# Altium footprint library RayPCB20210502.PcbLib: 222 footprints (part 8 of 14)
Each footprint in its own frame and in the unit in brackets; x right, y up, seen from the top. Pads: shape width x height; smd on the part's side, far side on the other; paste and mask are expansions set on the pad; w line width, h text height; cw(c..) or ccw(c..) is an arc to the next point about the centre after c.
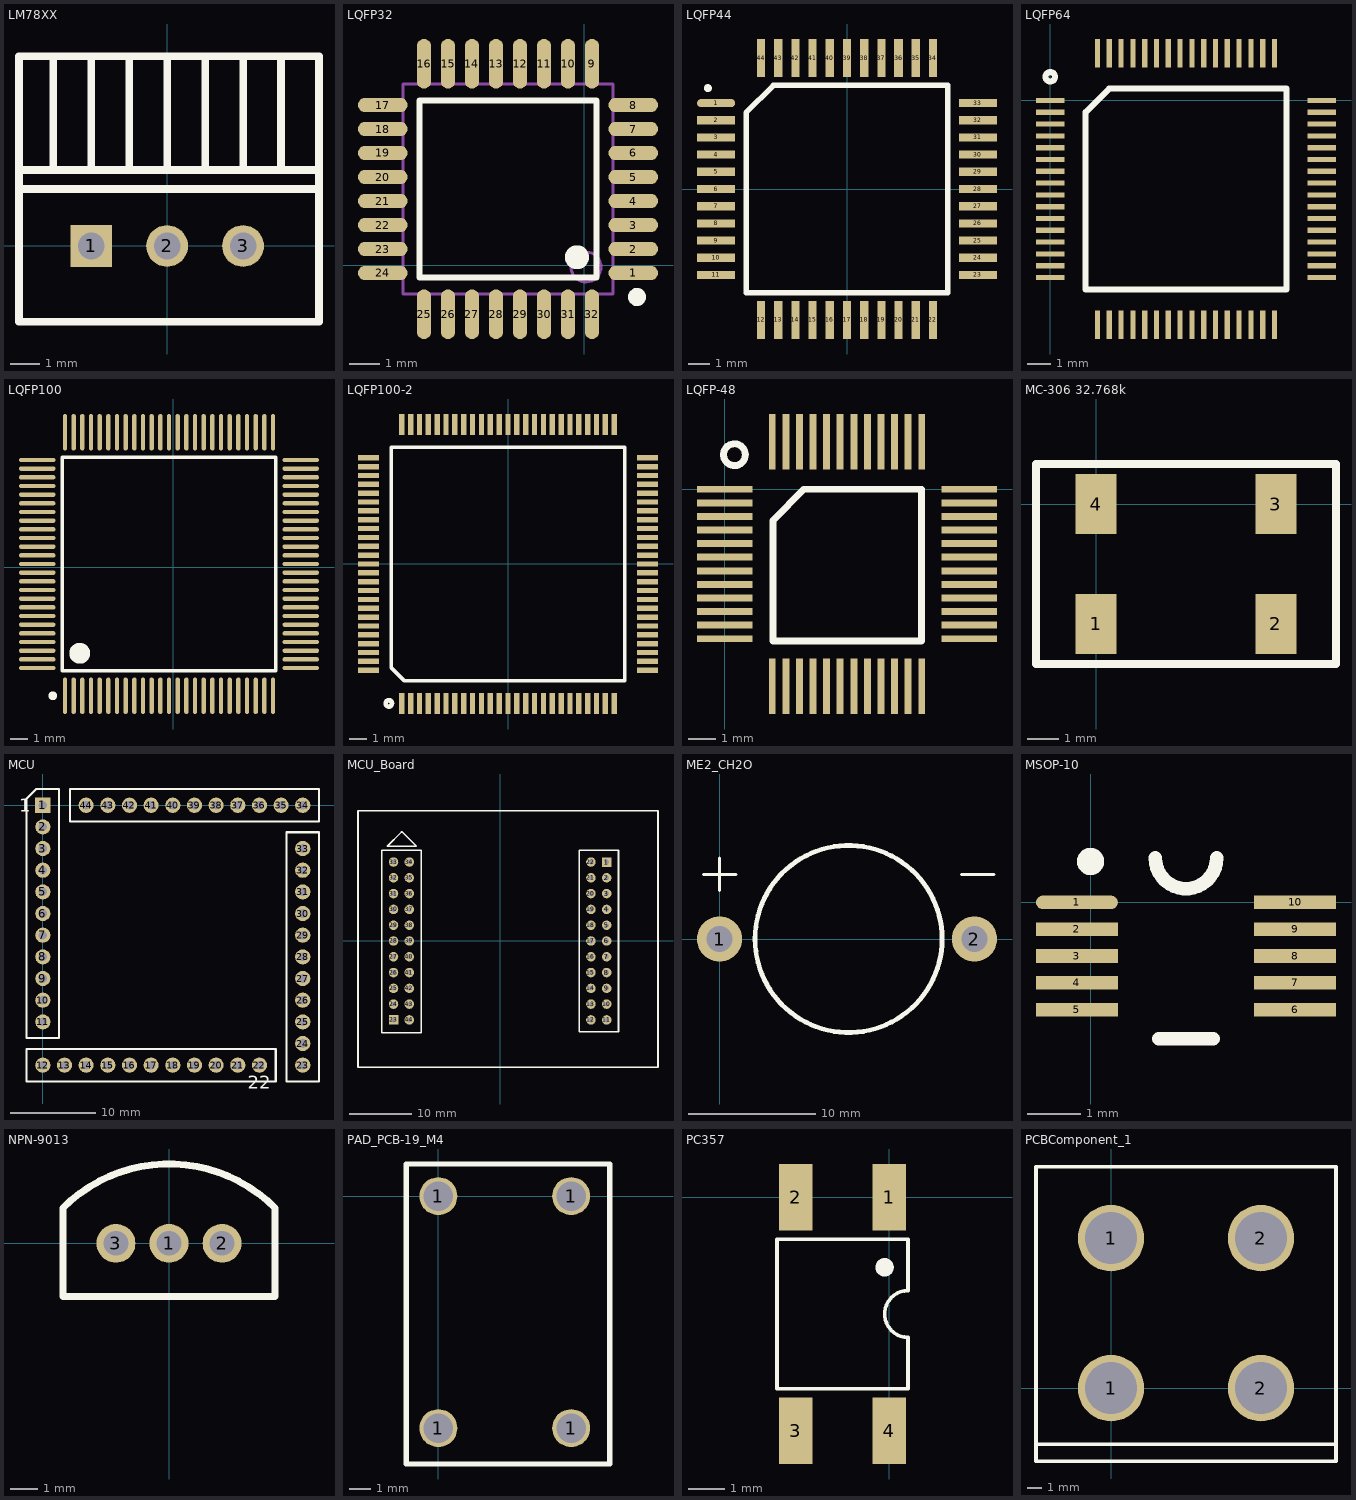
[diagram p7: the footprints below, top view; thin cyan lines are the x and y axes]

## LM78XX [mil]
pads (3):
  rect 55x55 hole 35: 1(-100,0)
  round 55 hole 35: 2(0,0) 3(100,0)
Top Overlay:
  lines w10: -195,75 200,75 ; -150,100 -150,250 ; -100,100 -100,250 ; -50,100 -50,250 ; 0,100 0,250 ; 50,100 50,250 ; 100,100 100,250 ; 150,100 150,250 ; -195,100 -195,-100 200,-100 200,100 ; -195,100 200,100 ; -195,100 -195,250 200,250 200,100

## LQFP32 [mm]
pads (32):
  oval 1.65x0.48 smd: 1(1.635,-0.26) 2(1.635,0.54) 3(1.635,1.34) 4(1.635,2.14) 5(1.635,2.94) 6(1.635,3.74) 7(1.635,4.54) 8(1.635,5.34) 17(-6.715,5.34) 18(-6.715,4.54) 19(-6.715,3.74) 20(-6.715,2.94) 21(-6.715,2.14) 22(-6.715,1.34) 23(-6.715,0.54) 24(-6.715,-0.26)
  oval 0.48x1.65 smd: 9(0.26,6.715) 10(-0.54,6.715) 11(-1.34,6.715) 12(-2.14,6.715) 13(-2.94,6.715) 14(-3.74,6.715) 15(-4.54,6.715) 16(-5.34,6.715) 25(-5.34,-1.635) 26(-4.54,-1.635) 27(-3.74,-1.635) 28(-2.94,-1.635) 29(-2.14,-1.635) 30(-1.34,-1.635) 31(-0.54,-1.635) 32(0.26,-1.635)
Top Overlay:
  circle w0.3: c1.76,-1.06 r0.15
  circle w0.4: c-0.24,0.265 r0.2
  lines w0.2: -5.49,-0.41 -5.49,5.49 0.41,5.49 0.41,-0.41 -5.49,-0.41
Mechanical 13:
  circle w0.1: c0.06,-0.06 r0.5
  lines w0.1: -6.04,-0.96 -6.04,6.04 0.96,6.04 0.96,-0.96 -6.04,-0.96

## LQFP44 [mil] "STM32S105S4"
pads (45):
  oval 70x15 smd: 1(-240,157.48)
  rect 70x15 smd: 2(-240,125.98) 3(-240,94.49) 4(-240,62.99) 5(-240,31.5) 6(-240,0) 7(-240,-31.5) 8(-240,-62.99) 9(-240,-94.49) 10(-240,-125.98) 11(-240,-157.48) 23(240,-157.48) 24(240,-125.98) 25(240,-94.49) 26(240,-62.99) 27(240,-31.5) 28(240,0) 29(240,31.5) 30(240,62.99) 31(240,94.49) 32(240,125.98) 33(240,157.48)
  rect 15x70 smd: 12(-157.48,-240) 13(-125.98,-240) 14(-94.49,-240) 15(-62.99,-240) 16(-31.5,-240) 17(0,-240) 18(31.5,-240) 19(62.99,-240) 20(94.49,-240) 21(125.98,-240) 22(157.48,-240) 34(157.48,240) 37(62.99,240) 38(31.5,240) 39(0,240) 40(-31.5,240) 41(-62.99,240) 42(-94.49,240) 43(-125.98,240) 44(-157.48,240)
  rect 15.75x70 smd: 35(125.98,240) 36(94.49,240)
  round 15 on Top Overlay: 45(-255,185)
Top Overlay:
  lines w10: -185,-190 185,-190 185,190 -135,190 -185,140 -185,-190

## LQFP64 [mm]
pads (64):
  rect 1.2x0.22 smd: 1(0,0) 2(0,-0.5) 3(0,-1) 4(0,-1.5) 5(0,-2) 6(0,-2.5) 7(0,-3) 8(0,-3.5) 9(0,-4) 10(0,-4.5) 11(0,-5) 12(0,-5.5) 13(0,-6) 14(0,-6.5) 15(0,-7) 16(0,-7.5) 33(11.5,-7.5) 34(11.5,-7) 35(11.5,-6.5) 36(11.5,-6) 37(11.5,-5.5) 38(11.5,-5) 39(11.5,-4.5) 40(11.5,-4) 41(11.5,-3.5) 42(11.5,-3) 43(11.5,-2.5) 44(11.5,-2) 45(11.5,-1.5) 46(11.5,-1) 47(11.5,-0.5) 48(11.5,0)
  rect 0.22x1.2 smd: 17(2,-9.5) 18(2.5,-9.5) 19(3,-9.5) 20(3.5,-9.5) 21(4,-9.5) 22(4.5,-9.5) 23(5,-9.5) 24(5.5,-9.5) 25(6,-9.5) 26(6.5,-9.5) 27(7,-9.5) 28(7.5,-9.5) 29(8,-9.5) 30(8.5,-9.5) 31(9,-9.5) 32(9.5,-9.5) 49(9.5,2) 50(9,2) 51(8.5,2) 52(8,2) 53(7.5,2) 54(7,2) 55(6.5,2) 56(6,2) 57(5.5,2) 58(5,2) 59(4.5,2) 60(4,2) 61(3.5,2) 62(3,2) 63(2.5,2) 64(2,2)
Top Overlay:
  circle w0.254: c0,1 r0.2
  lines w0.254: 2.5,0.5 1.5,-0.5 1.5,-8 10,-8 10,0.5 2.5,0.5 ; 2.5,0.5 2.5,0.5

## LQFP100 [mm] "STM32F013VBT6"
pads (100):
  oval 0.254x2.1 smd: 1(-6.25,-7.42) 2(-5.75,-7.42) 3(-5.25,-7.42) 4(-4.75,-7.42) 5(-4.25,-7.42) 6(-3.75,-7.42) 7(-3.25,-7.42) 8(-2.75,-7.42) 9(-2.25,-7.42) 10(-1.75,-7.42) 11(-1.25,-7.42) 12(-0.75,-7.42) 13(-0.25,-7.42) 14(0.25,-7.42) 15(0.75,-7.42) 16(1.25,-7.42) 17(1.75,-7.42) 18(2.25,-7.42) 19(2.75,-7.42) 20(3.25,-7.42) 21(3.75,-7.42) 22(4.25,-7.42) 23(4.75,-7.42) 24(5.25,-7.42) 25(5.75,-7.42) 51(5.75,7.78) 52(5.25,7.78) 53(4.75,7.78) 54(4.25,7.78) 55(3.75,7.78) 56(3.25,7.78) 57(2.75,7.78) 58(2.25,7.78) 59(1.75,7.78) 60(1.25,7.78) 61(0.75,7.78) 62(0.25,7.78) 63(-0.25,7.78) 64(-0.75,7.78) 65(-1.25,7.78) 66(-1.75,7.78) 67(-2.25,7.78) 68(-2.75,7.78) 69(-3.25,7.78) 70(-3.75,7.78) 71(-4.25,7.78) 72(-4.75,7.78) 73(-5.25,7.78) 74(-5.75,7.78) 75(-6.25,7.78)
  oval 2.1x0.254 smd: 26(7.35,-5.82) 27(7.35,-5.32) 28(7.35,-4.82) 29(7.35,-4.32) 30(7.35,-3.82) 31(7.35,-3.32) 32(7.35,-2.82) 33(7.35,-2.32) 34(7.35,-1.82) 35(7.35,-1.32) 36(7.35,-0.82) 37(7.35,-0.32) 38(7.35,0.18) 39(7.35,0.68) 40(7.35,1.18) 41(7.35,1.68) 42(7.35,2.18) 43(7.35,2.68) 44(7.35,3.18) 45(7.35,3.68) 46(7.35,4.18) 47(7.35,4.68) 48(7.35,5.18) 49(7.35,5.68) 50(7.35,6.18) 76(-7.85,6.18) 77(-7.85,5.68) 78(-7.85,5.18) 79(-7.85,4.68) 80(-7.85,4.18) 81(-7.85,3.68) 82(-7.85,3.18) 83(-7.85,2.68) 84(-7.85,2.18) 85(-7.85,1.68) 86(-7.85,1.18) 87(-7.85,0.68) 88(-7.85,0.18) 89(-7.85,-0.32) 90(-7.85,-0.82) 91(-7.85,-1.32) 92(-7.85,-1.82) 93(-7.85,-2.32) 94(-7.85,-2.82) 95(-7.85,-3.32) 96(-7.85,-3.82) 97(-7.85,-4.32) 98(-7.85,-4.82) 99(-7.85,-5.32) 100(-7.85,-5.82)
Top Overlay:
  circle w0.25: c-6.95,-7.42 r0.125
  circle w0.6: c-5.4,-4.97 r0.3
  lines w0.2: -6.4,-5.97 5.9,-5.97 5.9,6.33 -6.4,6.33 -6.4,-5.97

## LQFP100-2 [mm] "STM32F103VB"
pads (100):
  rect 0.3x1.2 smd: 1(-6,-7.873) 2(-5.5,-7.873) 3(-5,-7.873) 4(-4.5,-7.873) 5(-4,-7.873) 6(-3.5,-7.873) 7(-3,-7.873) 8(-2.5,-7.873) 9(-2,-7.873) 10(-1.5,-7.873) 11(-1,-7.873) 12(-0.5,-7.873) 13(0,-7.873) 14(0.5,-7.873) 15(1,-7.873) 16(1.5,-7.873) 17(2,-7.873) 18(2.5,-7.873) 19(3,-7.873) 20(3.5,-7.873) 21(4,-7.873) 22(4.5,-7.873) 23(5,-7.873) 24(5.5,-7.873) 25(6,-7.873) 51(6,7.873) 52(5.5,7.873) 53(5,7.873) 54(4.5,7.873) 55(4,7.873) 56(3.5,7.873) 57(3,7.873) 58(2.5,7.873) 59(2,7.873) 60(1.5,7.873) 61(1,7.873) 62(0.5,7.873) 63(0,7.873) 64(-0.5,7.873) 65(-1,7.873) 66(-1.5,7.873) 67(-2,7.873) 68(-2.5,7.873) 69(-3,7.873) 70(-3.5,7.873) 71(-4,7.873) 72(-4.5,7.873) 73(-5,7.873) 74(-5.5,7.873) 75(-6,7.873)
  rect 1.2x0.3 smd: 26(7.873,-6) 27(7.873,-5.5) 28(7.873,-5) 29(7.873,-4.5) 30(7.873,-4) 31(7.873,-3.5) 32(7.873,-3) 33(7.873,-2.5) 34(7.873,-2) 35(7.873,-1.5) 36(7.873,-1) 37(7.873,-0.5) 38(7.873,0) 39(7.873,0.5) 40(7.873,1) 41(7.873,1.5) 42(7.873,2) 43(7.873,2.5) 44(7.873,3) 45(7.873,3.5) 46(7.873,4) 47(7.873,4.5) 48(7.873,5) 49(7.873,5.5) 50(7.873,6) 76(-7.873,6) 77(-7.873,5.5) 78(-7.873,5) 79(-7.873,4.5) 80(-7.873,4) 81(-7.873,3.5) 82(-7.873,3) 83(-7.873,2.5) 84(-7.873,2) 85(-7.873,1.5) 86(-7.873,1) 87(-7.873,0.5) 88(-7.873,0) 89(-7.873,-0.5) 90(-7.873,-1) 91(-7.873,-1.5) 92(-7.873,-2) 93(-7.873,-2.5) 94(-7.873,-3) 95(-7.873,-3.5) 96(-7.873,-4) 97(-7.873,-4.5) 98(-7.873,-5) 99(-7.873,-5.5) 100(-7.873,-6)
Top Overlay:
  circle w0.254: c-6.731,-7.874 r0.18
  lines w0.203: -6.604,-5.842 -6.604,6.604 6.604,6.604 6.604,-6.604 -5.842,-6.604 -6.604,-5.842

## LQFP-48 [mil]
pads (48):
  rect 80x10 smd: 1(0,0) 2(0,-19.68) 3(0,-39.37) 4(0,-59.06) 5(0,-78.74) 6(0,-98.43) 7(0,-118.11) 8(0,-137.8) 9(0,-157.48) 10(0,-177.17) 11(0,-196.85) 12(0,-216.54) 25(354.33,-216.54) 26(354.33,-196.85) 27(354.33,-177.17) 28(354.33,-157.48) 29(354.33,-137.8) 30(354.33,-118.11) 31(354.33,-98.43) 32(354.33,-78.74) 33(354.33,-59.06) 34(354.33,-39.37) 35(354.33,-19.68) 36(354.33,0)
  rect 10x80 smd: 13(68.9,-285.43) 14(88.58,-285.43) 15(108.27,-285.43) 16(127.95,-285.43) 17(147.64,-285.43) 18(167.32,-285.43) 19(187.01,-285.43) 20(206.69,-285.43) 21(226.38,-285.43) 22(246.06,-285.43) 23(265.75,-285.43) 24(285.43,-285.43) 37(285.43,68.9) 38(265.75,68.9) 39(246.06,68.9) 40(226.38,68.9) 41(206.69,68.9) 42(187.01,68.9) 43(167.32,68.9) 44(147.64,68.9) 45(127.95,68.9) 46(108.27,68.9) 47(88.58,68.9) 48(68.9,68.9)
Top Overlay:
  circle w10: c14.19,50 r15.81
  lines w10: 70,-220 70,-45 115,0 285,0 285,-220 70,-220

## MC-306 32.768k [mm]
pads (4):
  rect 1.3x1.9 smd: 1(0,-3.81) 2(5.715,-3.81) 3(5.715,0) 4(0,0)
Top Overlay:
  lines w0.254: -1.905,-5.08 -1.905,1.27 7.62,1.27 7.62,-5.08 -1.905,-5.08

## MCU [mil]
pads (44):
  rect 70x70 hole 40: 1(0,0)
  round 70 hole 40: 2(0,-100) 3(0,-200) 4(0,-300) 5(0,-400) 6(0,-500) 7(0,-600) 8(0,-700) 9(0,-800) 10(0,-900) 11(0,-1000) 12(0,-1200) 13(100,-1200) 14(200,-1200) 15(300,-1200) 16(400,-1200) 17(500,-1200) 18(600,-1200) 19(700,-1200) 20(800,-1200) 21(900,-1200) 22(1000,-1200) 23(1200,-1200) 24(1200,-1100) 25(1200,-1000) 26(1200,-900) 27(1200,-800) 28(1200,-700) 29(1200,-600) 30(1200,-500) 31(1200,-400) 32(1200,-300) 33(1200,-200) 34(1200,0) 35(1100,0) 36(1000,0) 37(900,0) 38(800,0) 39(700,0) 40(600,0) 41(500,0) 42(400,0) 43(300,0) 44(200,0)
Top Overlay:
  lines w10: -75,-1275 -75,-1125 1075,-1125 1075,-1275 -75,-1275 ; -75,-1075 75,-1075 75,75 -30,75 -35,70 -75,30 -75,-1075 ; 125,-75 125,75 1275,75 1275,-75 125,-75 ; 1125,-1275 1275,-1275 1275,-125 1125,-125 1125,-1275
  text "1" at -110,-30 h60
  text "22" at 945,-1310 h60

## MCU_Board [mil]
pads (44):
  rect 60x60 hole 30: 1(675,500) 23(-675,-500)
  round 60 hole 30: 2(675,400) 3(675,300) 4(675,200) 5(675,100) 6(675,0) 7(675,-100) 8(675,-200) 9(675,-300) 10(675,-400) 11(675,-500) 12(575,-500) 13(575,-400) 14(575,-300) 15(575,-200) 16(575,-100) 17(575,0) 18(575,100) 19(575,200) 20(575,300) 21(575,400) 22(575,500) 24(-675,-400) 25(-675,-300) 26(-675,-200) 27(-675,-100) 28(-675,0) 29(-675,100) 30(-675,200) 31(-675,300) 32(-675,400) 33(-675,500) 34(-575,500) 35(-575,400) 36(-575,300) 37(-575,200) 38(-575,100) 39(-575,0) 40(-575,-100) 41(-575,-200) 42(-575,-300) 43(-575,-400) 44(-575,-500)
Top Overlay:
  lines w10: -900,-800 -900,825 1000,825 1000,-800 -900,-800 ; -750,-580 -500,-580 -500,575 -750,575 -750,550 -750,-580 ; -715,600 -530,600 -620,690 -625,690 -715,600 ; 500,-575 750,-575 750,575 500,575 500,-575

## ME2_CH2O [mil] "CH2O SENSOR"
pads (2):
  round 140 hole 80: 1(0,0) 2(790,0)
Top Overlay:
  circle w15: c400,0 r290
  lines w10: -50,200 50,200 ; 0,150 0,250 ; 750,200 850,200

## MSOP-10 [mil] "RM-10(AD8475)"
pads (10):
  oval 60x10 smd: 1(-10,0)
  rect 60x10 smd: 2(-10,-19.68) 3(-10,-39.37) 4(-10,-59.06) 5(-10,-78.74) 6(150,-78.74) 7(150,-59.06) 8(150,-39.37) 9(150,-19.68) 10(150,0)
Top Overlay:
  circle w10: c0,30 r5
  lines w10: 47.5,32.5 ccw(c70,32.5) 92.5,32.5 ; 50,-100 90,-100

## NPN-9013 [mil]
pads (3):
  round 55 hole 35: 1(0,0) 2(75,0) 3(-75,0)
Top Overlay:
  lines w10: -150,-75 -150,50 cw(c0,-100) 150,50 150,-75 -150,-75

## PAD_PCB-19_M4 [mm]
pads (4):
  round 1.8 hole 1.4: 1(0,-11) 1(0,0) 1(6.3,-11) 1(6.3,0)
Top Overlay:
  lines w0.254: -1.524,-12.7 -1.524,1.524 8.128,1.524 8.128,-12.7 -1.524,-12.7

## PC357 [mm]
pads (4):
  rect 0.9x1.8 smd: 1(0,0) 2(-2.54,0) 3(-2.54,-6.35) 4(0,-6.35)
Top Overlay:
  circle w0.25: c-0.127,-1.907 r0.125
  lines w0.1: -3.048,-5.207 -3.048,-1.143 0.508,-1.143 0.508,-2.54 ccw(c0.508,-3.175) 0.508,-3.81 0.508,-5.207 -3.048,-5.207

## PCBComponent_1 [mm]
pads (4):
  round 4.5 hole 3.5: 1(0,0) 1(0,10.16) 2(10.16,0) 2(10.16,10.16)
Top Overlay:
  lines w0.254: -5.08,-3.81 15.24,-3.81 ; -5.08,-4.953 15.24,-4.953 15.24,14.986 -5.08,14.986 -5.08,-4.953